# Altium footprint library 532614008.PcbLib: 3 footprints
Each footprint in its own frame and in the unit in brackets; x right, y up, seen from the top. Pads: shape width x height; smd on the part's side, far side on the other; paste and mask are expansions set on the pad; w line width, h text height; cw(c..) or ccw(c..) is an arc to the next point about the centre after c.
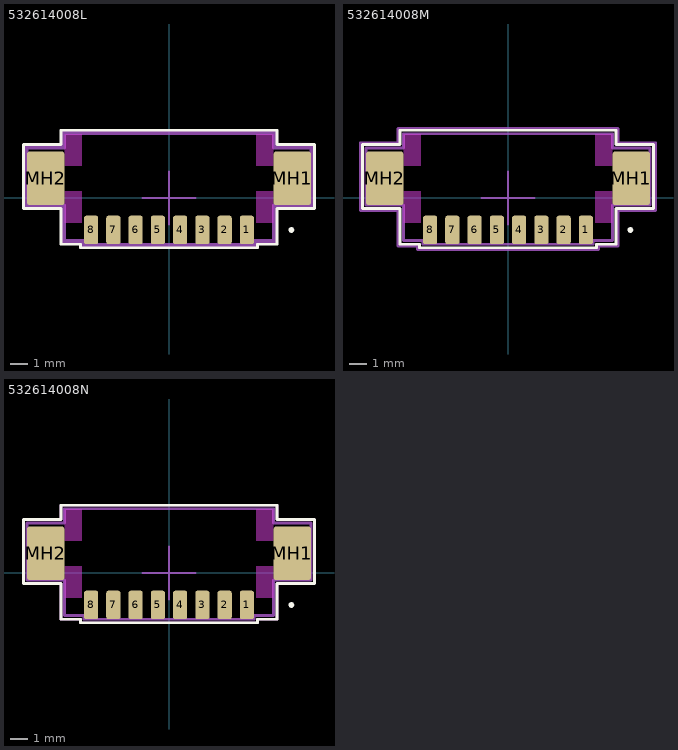
[diagram p0: the footprints below, top view; thin cyan lines are the x and y axes]

## 532614008L [mm] "Molex PicoBlade 8-Pin Right-Angle Connector with Gold Coating"
height 3.4
pads (10):
  rrect31% 0.8x1.6 smd: 1(4.375,-1.8) 2(3.125,-1.8) 3(1.875,-1.8) 4(0.625,-1.8) 5(-0.625,-1.8) 6(-1.875,-1.8) 7(-3.125,-1.8) 8(-4.375,-1.8)
  rrect12% 2.1x3 smd: MH1(6.925,1.1) MH2(-6.925,1.1)
Top Layer keep-out:
  rectangle: -5.875,3.6 -4.875,1.8
  rectangle: 5.875,3.6 4.875,1.8
  rectangle: -5.875,-1.4 -4.875,0.4
  rectangle: 5.875,-1.4 4.875,0.4
Top Overlay:
  circle w0.16: c6.875,-1.8 r0.08
  lines w0.16: -8.175,-0.6 -6.075,-0.6 -6.075,-2.6 -4.975,-2.6 -4.975,-2.8 4.975,-2.8 4.975,-2.6 6.075,-2.6 6.075,-0.6 8.175,-0.6 8.175,3 6.075,3 6.075,3.8 -6.075,3.8 -6.075,3 -8.175,3 -8.175,-0.6
Top Component Center:
  lines w0.1: -1.5,0 1.5,0 ; 0,-1.5 0,1.5
Top Courtyard:
  lines w0.16: -8.075,-0.5 -5.975,-0.5 -5.975,-2.5 -4.875,-2.5 -4.875,-2.7 4.875,-2.7 4.875,-2.5 5.975,-2.5 5.975,-0.5 8.075,-0.5 8.075,2.9 5.975,2.9 5.975,3.7 -5.975,3.7 -5.975,2.9 -8.075,2.9 -8.075,-0.5
Top Assembly:
  lines w0.16: -7.975,-0.4 -5.875,-0.4 -5.875,-2.4 -4.775,-2.4 -4.775,-2.6 4.775,-2.6 4.775,-2.4 5.875,-2.4 5.875,-0.4 7.975,-0.4 7.975,2.8 5.875,2.8 5.875,3.6 -5.875,3.6 -5.875,2.8 -7.975,2.8 -7.975,-0.4
3D body "532614008L.STEP": height 3.4, standoff 0, extent -7.575,-2 7.575,3.2

## 532614008M [mm] "Molex PicoBlade 8-Pin Right-Angle Connector with Gold Coating"
height 3.4
pads (10):
  rrect31% 0.8x1.6 smd: 1(4.375,-1.8) 2(3.125,-1.8) 3(1.875,-1.8) 4(0.625,-1.8) 5(-0.625,-1.8) 6(-1.875,-1.8) 7(-3.125,-1.8) 8(-4.375,-1.8)
  rrect12% 2.1x3 smd: MH1(6.925,1.1) MH2(-6.925,1.1)
Top Layer keep-out:
  rectangle: -5.875,3.6 -4.875,1.8
  rectangle: 5.875,3.6 4.875,1.8
  rectangle: -5.875,-1.4 -4.875,0.4
  rectangle: 5.875,-1.4 4.875,0.4
Top Overlay:
  circle w0.16: c6.875,-1.8 r0.08
  lines w0.16: -8.175,-0.6 -6.075,-0.6 -6.075,-2.6 -4.975,-2.6 -4.975,-2.8 4.975,-2.8 4.975,-2.6 6.075,-2.6 6.075,-0.6 8.175,-0.6 8.175,3 6.075,3 6.075,3.8 -6.075,3.8 -6.075,3 -8.175,3 -8.175,-0.6
Top Component Center:
  lines w0.1: -1.5,0 1.5,0 ; 0,-1.5 0,1.5
Top Courtyard:
  lines w0.16: -8.275,-0.7 -6.175,-0.7 -6.175,-2.7 -5.075,-2.7 -5.075,-2.9 5.075,-2.9 5.075,-2.7 6.175,-2.7 6.175,-0.7 8.275,-0.7 8.275,3.1 6.175,3.1 6.175,3.9 -6.175,3.9 -6.175,3.1 -8.275,3.1 -8.275,-0.7
Top Assembly:
  lines w0.16: -7.975,-0.4 -5.875,-0.4 -5.875,-2.4 -4.775,-2.4 -4.775,-2.6 4.775,-2.6 4.775,-2.4 5.875,-2.4 5.875,-0.4 7.975,-0.4 7.975,2.8 5.875,2.8 5.875,3.6 -5.875,3.6 -5.875,2.8 -7.975,2.8 -7.975,-0.4
3D body "532614008M.STEP": height 3.4, standoff 0, extent -7.575,-2 7.575,3.2

## 532614008N [mm] "Molex PicoBlade 8-Pin Right-Angle Connector with Gold Coating"
height 3.4
pads (10):
  rrect31% 0.8x1.6 smd: 1(4.375,-1.8) 2(3.125,-1.8) 3(1.875,-1.8) 4(0.625,-1.8) 5(-0.625,-1.8) 6(-1.875,-1.8) 7(-3.125,-1.8) 8(-4.375,-1.8)
  rrect12% 2.1x3 smd: MH1(6.925,1.1) MH2(-6.925,1.1)
Top Layer keep-out:
  rectangle: -5.875,3.6 -4.875,1.8
  rectangle: 5.875,3.6 4.875,1.8
  rectangle: -5.875,-1.4 -4.875,0.4
  rectangle: 5.875,-1.4 4.875,0.4
Top Overlay:
  circle w0.16: c6.875,-1.8 r0.08
  lines w0.16: -8.175,-0.6 -6.075,-0.6 -6.075,-2.6 -4.975,-2.6 -4.975,-2.8 4.975,-2.8 4.975,-2.6 6.075,-2.6 6.075,-0.6 8.175,-0.6 8.175,3 6.075,3 6.075,3.8 -6.075,3.8 -6.075,3 -8.175,3 -8.175,-0.6
Top Component Center:
  lines w0.1: -1.5,0 1.5,0 ; 0,-1.5 0,1.5
Top Courtyard:
  lines w0.16: -8.175,-0.6 -6.075,-0.6 -6.075,-2.6 -4.975,-2.6 -4.975,-2.8 4.975,-2.8 4.975,-2.6 6.075,-2.6 6.075,-0.6 8.175,-0.6 8.175,3 6.075,3 6.075,3.8 -6.075,3.8 -6.075,3 -8.175,3 -8.175,-0.6
Top Assembly:
  lines w0.16: -7.975,-0.4 -5.875,-0.4 -5.875,-2.4 -4.775,-2.4 -4.775,-2.6 4.775,-2.6 4.775,-2.4 5.875,-2.4 5.875,-0.4 7.975,-0.4 7.975,2.8 5.875,2.8 5.875,3.6 -5.875,3.6 -5.875,2.8 -7.975,2.8 -7.975,-0.4
3D body "532614008N.STEP": height 3.4, standoff 0, extent -7.575,-2 7.575,3.2